# Altium footprint library Micro SD 手动绘制.PcbLib: 2 footprints
Each footprint in its own frame and in the unit in brackets; x right, y up, seen from the top. Pads: shape width x height; smd on the part's side, far side on the other; paste and mask are expansions set on the pad; w line width, h text height; cw(c..) or ccw(c..) is an arc to the next point about the centre after c.
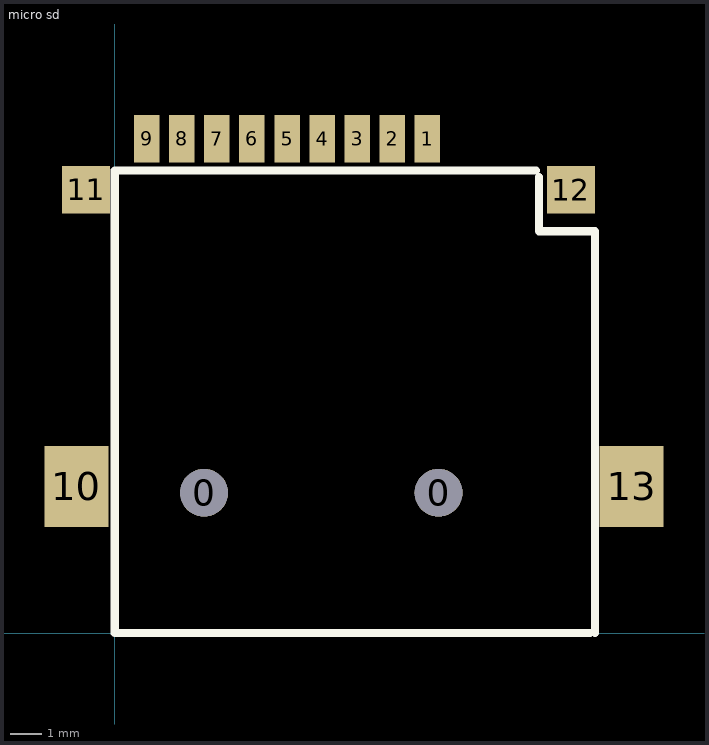
[diagram p0: the footprints below, top view; thin cyan lines are the x and y axes]

## micro sd [mm]
pads (15):
  round 1.5 hole 1.5: 0(2.8,4.4) 0(10.15,4.4)
  rect 0.8x1.5 smd: 1(9.8,15.5) 2(8.7,15.5) 3(7.6,15.5) 4(6.5,15.5) 5(5.4,15.5) 6(4.3,15.5) 7(3.2,15.5) 8(2.1,15.5) 9(1,15.5)
  rect 2x2.55 smd: 10(-1.2,4.6) 13(16.2,4.6)
  rect 1.5x1.5 smd: 11(-0.9,13.9) 12(14.3,13.9)
Top Overlay:
  lines w0.254: 13.2,14.5 0,14.5 0,0 14.9,0 ; 13.3,14.3 13.3,12.6 15.05,12.6 15.05,0

## PCBComponent_1 [mm]